# Altium footprint library Connector_Samtec_HLE_SMD.PcbLib: 290 footprints (part 4 of 24)
Each footprint in its own frame and in the unit in brackets; x right, y up, seen from the top. Pads: shape width x height; smd on the part's side, far side on the other; paste and mask are expansions set on the pad; w line width, h text height; cw(c..) or ccw(c..) is an arc to the next point about the centre after c.
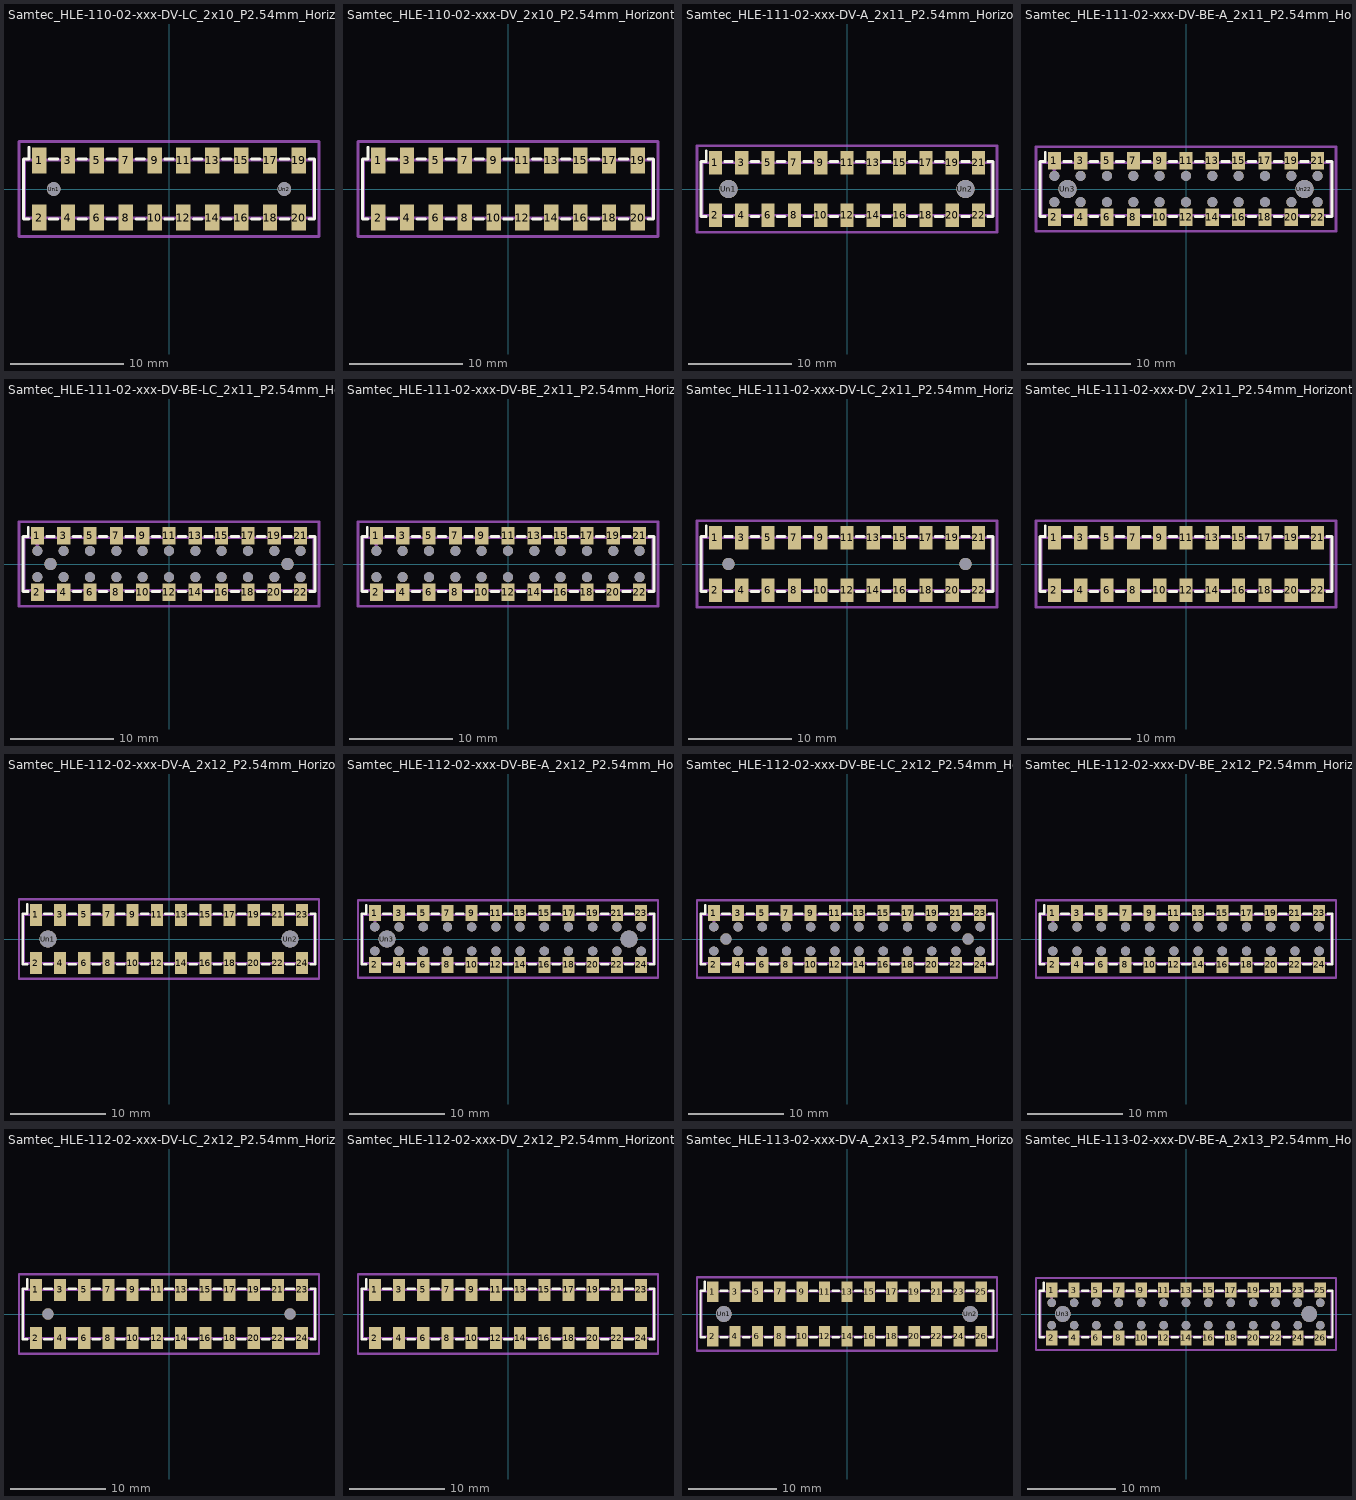
[diagram p3: the footprints below, top view; thin cyan lines are the x and y axes]

## Samtec_HLE-110-02-xxx-DV-LC_2x10_P2.54mm_Horizontal [mm]
pads (22):
  rect 1.27x2.29 smd: 1(-11.43,2.525) 2(-11.43,-2.525) 3(-8.89,2.525) 4(-8.89,-2.525) 5(-6.35,2.525) 6(-6.35,-2.525) 7(-3.81,2.525) 8(-3.81,-2.525) 9(-1.27,2.525) 10(-1.27,-2.525) 11(1.27,2.525) 12(1.27,-2.525) 13(3.81,2.525) 14(3.81,-2.525) 15(6.35,2.525) 16(6.35,-2.525) 17(8.89,2.525) 18(8.89,-2.525) 19(11.43,2.525) 20(11.43,-2.525)
  round 1.19 hole 1.19: Un1(-10.16,0) Un2(10.16,0)
F.SilkS:
  lines w0.254: -12.325,-2.65 -12.81,-2.65 -12.81,2.65 -12.325,2.65 -12.325,3.67 ; -10.535,-2.65 -9.785,-2.65 ; -10.535,2.65 -9.785,2.65 ; -7.995,-2.65 -7.245,-2.65 ; -7.995,2.65 -7.245,2.65 ; -5.455,-2.65 -4.705,-2.65 ; -5.455,2.65 -4.705,2.65 ; -2.915,-2.65 -2.165,-2.65 ; -2.915,2.65 -2.165,2.65 ; -0.375,-2.65 0.375,-2.65 ; -0.375,2.65 0.375,2.65 ; 2.165,-2.65 2.915,-2.65 ; 2.165,2.65 2.915,2.65 ; 4.705,-2.65 5.455,-2.65 ; 4.705,2.65 5.455,2.65 ; 7.245,-2.65 7.995,-2.65 ; 7.245,2.65 7.995,2.65 ; 9.785,-2.65 10.535,-2.65 ; 9.785,2.65 10.535,2.65 ; 12.325,-2.65 12.81,-2.65 12.81,2.65 12.325,2.65
Top Assembly:
  lines w0.254: -11.93,2.54 -11.43,1.833 -10.93,2.54 ; -12.7,-2.54 12.7,-2.54 12.7,2.54 -12.7,2.54 -12.7,-2.54
  text "'.Designator'" at -4.047,-2.68 h1
Top Courtyard:
  lines w0.254: -13.2,-4.17 13.2,-4.17 13.2,4.17 -13.2,4.17 -13.2,-4.17
Top Designator:
  text ".Designator" at -7.618,-0.508 h1.52

## Samtec_HLE-110-02-xxx-DV_2x10_P2.54mm_Horizontal [mm]
pads (20):
  rect 1.27x2.29 smd: 1(-11.43,2.525) 2(-11.43,-2.525) 3(-8.89,2.525) 4(-8.89,-2.525) 5(-6.35,2.525) 6(-6.35,-2.525) 7(-3.81,2.525) 8(-3.81,-2.525) 9(-1.27,2.525) 10(-1.27,-2.525) 11(1.27,2.525) 12(1.27,-2.525) 13(3.81,2.525) 14(3.81,-2.525) 15(6.35,2.525) 16(6.35,-2.525) 17(8.89,2.525) 18(8.89,-2.525) 19(11.43,2.525) 20(11.43,-2.525)
F.SilkS:
  lines w0.254: -12.325,-2.65 -12.81,-2.65 -12.81,2.65 -12.325,2.65 -12.325,3.67 ; -10.535,-2.65 -9.785,-2.65 ; -10.535,2.65 -9.785,2.65 ; -7.995,-2.65 -7.245,-2.65 ; -7.995,2.65 -7.245,2.65 ; -5.455,-2.65 -4.705,-2.65 ; -5.455,2.65 -4.705,2.65 ; -2.915,-2.65 -2.165,-2.65 ; -2.915,2.65 -2.165,2.65 ; -0.375,-2.65 0.375,-2.65 ; -0.375,2.65 0.375,2.65 ; 2.165,-2.65 2.915,-2.65 ; 2.165,2.65 2.915,2.65 ; 4.705,-2.65 5.455,-2.65 ; 4.705,2.65 5.455,2.65 ; 7.245,-2.65 7.995,-2.65 ; 7.245,2.65 7.995,2.65 ; 9.785,-2.65 10.535,-2.65 ; 9.785,2.65 10.535,2.65 ; 12.325,-2.65 12.81,-2.65 12.81,2.65 12.325,2.65
Top Assembly:
  lines w0.254: -11.93,2.54 -11.43,1.833 -10.93,2.54 ; -12.7,-2.54 12.7,-2.54 12.7,2.54 -12.7,2.54 -12.7,-2.54
  text "'.Designator'" at -4.047,-2.68 h1
Top Courtyard:
  lines w0.254: -13.2,-4.17 13.2,-4.17 13.2,4.17 -13.2,4.17 -13.2,-4.17
Top Designator:
  text ".Designator" at -7.618,-0.508 h1.52

## Samtec_HLE-111-02-xxx-DV-A_2x11_P2.54mm_Horizontal [mm]
pads (24):
  rect 1.27x2.29 smd: 1(-12.7,2.525) 2(-12.7,-2.525) 3(-10.16,2.525) 4(-10.16,-2.525) 5(-7.62,2.525) 6(-7.62,-2.525) 7(-5.08,2.525) 8(-5.08,-2.525) 9(-2.54,2.525) 10(-2.54,-2.525) 11(0,2.525) 12(0,-2.525) 13(2.54,2.525) 14(2.54,-2.525) 15(5.08,2.525) 16(5.08,-2.525) 17(7.62,2.525) 18(7.62,-2.525) 19(10.16,2.525) 20(10.16,-2.525) 21(12.7,2.525) 22(12.7,-2.525)
  round 1.78 hole 1.78: Un1(-11.43,0) Un2(11.43,0)
F.SilkS:
  lines w0.254: -13.595,-2.65 -14.08,-2.65 -14.08,2.65 -13.595,2.65 -13.595,3.67 ; -11.805,-2.65 -11.055,-2.65 ; -11.805,2.65 -11.055,2.65 ; -9.265,-2.65 -8.515,-2.65 ; -9.265,2.65 -8.515,2.65 ; -6.725,-2.65 -5.975,-2.65 ; -6.725,2.65 -5.975,2.65 ; -4.185,-2.65 -3.435,-2.65 ; -4.185,2.65 -3.435,2.65 ; -1.645,-2.65 -0.895,-2.65 ; -1.645,2.65 -0.895,2.65 ; 0.895,-2.65 1.645,-2.65 ; 0.895,2.65 1.645,2.65 ; 3.435,-2.65 4.185,-2.65 ; 3.435,2.65 4.185,2.65 ; 5.975,-2.65 6.725,-2.65 ; 5.975,2.65 6.725,2.65 ; 8.515,-2.65 9.265,-2.65 ; 8.515,2.65 9.265,2.65 ; 11.055,-2.65 11.805,-2.65 ; 11.055,2.65 11.805,2.65 ; 13.595,-2.65 14.08,-2.65 14.08,2.65 13.595,2.65
Top Assembly:
  lines w0.254: -13.2,2.54 -12.7,1.833 -12.2,2.54 ; -13.97,-2.54 13.97,-2.54 13.97,2.54 -13.97,2.54 -13.97,-2.54
  text "'.Designator'" at -4.047,-2.68 h1
Top Courtyard:
  lines w0.254: -14.47,-4.17 14.47,-4.17 14.47,4.17 -14.47,4.17 -14.47,-4.17
Top Designator:
  text ".Designator" at -7.618,-0.508 h1.52

## Samtec_HLE-111-02-xxx-DV-BE-A_2x11_P2.54mm_Horizontal [mm]
pads (46):
  rect 1.27x1.68 smd: 1(-12.7,2.72) 2(-12.7,-2.72) 3(-10.16,2.72) 4(-10.16,-2.72) 5(-7.62,2.72) 6(-7.62,-2.72) 7(-5.08,2.72) 8(-5.08,-2.72) 9(-2.54,2.72) 10(-2.54,-2.72) 11(0,2.72) 12(0,-2.72) 13(2.54,2.72) 14(2.54,-2.72) 15(5.08,2.72) 16(5.08,-2.72) 17(7.62,2.72) 18(7.62,-2.72) 19(10.16,2.72) 20(10.16,-2.72) 21(12.7,2.72) 22(12.7,-2.72)
  round 0.97 hole 0.97: Un1(-12.7,1.27) Un2(-12.7,-1.27) Un4(-10.16,1.27) Un5(-10.16,-1.27) Un6(-7.62,1.27) Un7(-7.62,-1.27) Un8(-5.08,1.27) Un9(-5.08,-1.27) Un10(-2.54,1.27) Un11(-2.54,-1.27) Un12(0,1.27) Un13(0,-1.27) Un14(2.54,1.27) Un15(2.54,-1.27) Un16(5.08,1.27) Un17(5.08,-1.27) Un18(7.62,1.27) Un19(7.62,-1.27) Un20(10.16,1.27) Un21(10.16,-1.27) Un23(12.7,1.27) Un24(12.7,-1.27)
  round 1.78 hole 1.78: Un3(-11.43,0) Un22(11.43,0)
F.SilkS:
  lines w0.254: -13.595,-2.65 -14.08,-2.65 -14.08,2.65 -13.595,2.65 -13.595,3.56 ; -11.805,-2.65 -11.055,-2.65 ; -11.805,2.65 -11.055,2.65 ; -9.265,-2.65 -8.515,-2.65 ; -9.265,2.65 -8.515,2.65 ; -6.725,-2.65 -5.975,-2.65 ; -6.725,2.65 -5.975,2.65 ; -4.185,-2.65 -3.435,-2.65 ; -4.185,2.65 -3.435,2.65 ; -1.645,-2.65 -0.895,-2.65 ; -1.645,2.65 -0.895,2.65 ; 0.895,-2.65 1.645,-2.65 ; 0.895,2.65 1.645,2.65 ; 3.435,-2.65 4.185,-2.65 ; 3.435,2.65 4.185,2.65 ; 5.975,-2.65 6.725,-2.65 ; 5.975,2.65 6.725,2.65 ; 8.515,-2.65 9.265,-2.65 ; 8.515,2.65 9.265,2.65 ; 11.055,-2.65 11.805,-2.65 ; 11.055,2.65 11.805,2.65 ; 13.595,-2.65 14.08,-2.65 14.08,2.65 13.595,2.65
Top Assembly:
  lines w0.254: -13.2,2.54 -12.7,1.833 -12.2,2.54 ; -13.97,-2.54 13.97,-2.54 13.97,2.54 -13.97,2.54 -13.97,-2.54
  text "'.Designator'" at -4.047,-2.68 h1
Top Courtyard:
  lines w0.254: -14.47,-4.07 14.47,-4.07 14.47,4.07 -14.47,4.07 -14.47,-4.07
Top Designator:
  text ".Designator" at -7.618,-0.508 h1.52

## Samtec_HLE-111-02-xxx-DV-BE-LC_2x11_P2.54mm_Horizontal [mm]
pads (46):
  rect 1.27x1.68 smd: 1(-12.7,2.72) 2(-12.7,-2.72) 3(-10.16,2.72) 4(-10.16,-2.72) 5(-7.62,2.72) 6(-7.62,-2.72) 7(-5.08,2.72) 8(-5.08,-2.72) 9(-2.54,2.72) 10(-2.54,-2.72) 11(0,2.72) 12(0,-2.72) 13(2.54,2.72) 14(2.54,-2.72) 15(5.08,2.72) 16(5.08,-2.72) 17(7.62,2.72) 18(7.62,-2.72) 19(10.16,2.72) 20(10.16,-2.72) 21(12.7,2.72) 22(12.7,-2.72)
  round 0.97 hole 0.97: Un1(-12.7,1.27) Un2(-12.7,-1.27) Un4(-10.16,1.27) Un5(-10.16,-1.27) Un6(-7.62,1.27) Un7(-7.62,-1.27) Un8(-5.08,1.27) Un9(-5.08,-1.27) Un10(-2.54,1.27) Un11(-2.54,-1.27) Un12(0,1.27) Un13(0,-1.27) Un14(2.54,1.27) Un15(2.54,-1.27) Un16(5.08,1.27) Un17(5.08,-1.27) Un18(7.62,1.27) Un19(7.62,-1.27) Un20(10.16,1.27) Un21(10.16,-1.27) Un23(12.7,1.27) Un24(12.7,-1.27)
  round 1.19 hole 1.19: Un3(-11.43,0) Un22(11.43,0)
F.SilkS:
  lines w0.254: -13.595,-2.65 -14.08,-2.65 -14.08,2.65 -13.595,2.65 -13.595,3.56 ; -11.805,-2.65 -11.055,-2.65 ; -11.805,2.65 -11.055,2.65 ; -9.265,-2.65 -8.515,-2.65 ; -9.265,2.65 -8.515,2.65 ; -6.725,-2.65 -5.975,-2.65 ; -6.725,2.65 -5.975,2.65 ; -4.185,-2.65 -3.435,-2.65 ; -4.185,2.65 -3.435,2.65 ; -1.645,-2.65 -0.895,-2.65 ; -1.645,2.65 -0.895,2.65 ; 0.895,-2.65 1.645,-2.65 ; 0.895,2.65 1.645,2.65 ; 3.435,-2.65 4.185,-2.65 ; 3.435,2.65 4.185,2.65 ; 5.975,-2.65 6.725,-2.65 ; 5.975,2.65 6.725,2.65 ; 8.515,-2.65 9.265,-2.65 ; 8.515,2.65 9.265,2.65 ; 11.055,-2.65 11.805,-2.65 ; 11.055,2.65 11.805,2.65 ; 13.595,-2.65 14.08,-2.65 14.08,2.65 13.595,2.65
Top Assembly:
  lines w0.254: -13.2,2.54 -12.7,1.833 -12.2,2.54 ; -13.97,-2.54 13.97,-2.54 13.97,2.54 -13.97,2.54 -13.97,-2.54
  text "'.Designator'" at -4.047,-2.68 h1
Top Courtyard:
  lines w0.254: -14.47,-4.07 14.47,-4.07 14.47,4.07 -14.47,4.07 -14.47,-4.07
Top Designator:
  text ".Designator" at -7.618,-0.508 h1.52

## Samtec_HLE-111-02-xxx-DV-BE_2x11_P2.54mm_Horizontal [mm]
pads (44):
  rect 1.27x1.68 smd: 1(-12.7,2.72) 2(-12.7,-2.72) 3(-10.16,2.72) 4(-10.16,-2.72) 5(-7.62,2.72) 6(-7.62,-2.72) 7(-5.08,2.72) 8(-5.08,-2.72) 9(-2.54,2.72) 10(-2.54,-2.72) 11(0,2.72) 12(0,-2.72) 13(2.54,2.72) 14(2.54,-2.72) 15(5.08,2.72) 16(5.08,-2.72) 17(7.62,2.72) 18(7.62,-2.72) 19(10.16,2.72) 20(10.16,-2.72) 21(12.7,2.72) 22(12.7,-2.72)
  round 0.97 hole 0.97: Un1(-12.7,1.27) Un2(-12.7,-1.27) Un3(-10.16,1.27) Un4(-10.16,-1.27) Un5(-7.62,1.27) Un6(-7.62,-1.27) Un7(-5.08,1.27) Un8(-5.08,-1.27) Un9(-2.54,1.27) Un10(-2.54,-1.27) Un11(0,1.27) Un12(0,-1.27) Un13(2.54,1.27) Un14(2.54,-1.27) Un15(5.08,1.27) Un16(5.08,-1.27) Un17(7.62,1.27) Un18(7.62,-1.27) Un19(10.16,1.27) Un20(10.16,-1.27) Un21(12.7,1.27) Un22(12.7,-1.27)
F.SilkS:
  lines w0.254: -13.595,-2.65 -14.08,-2.65 -14.08,2.65 -13.595,2.65 -13.595,3.56 ; -11.805,-2.65 -11.055,-2.65 ; -11.805,2.65 -11.055,2.65 ; -9.265,-2.65 -8.515,-2.65 ; -9.265,2.65 -8.515,2.65 ; -6.725,-2.65 -5.975,-2.65 ; -6.725,2.65 -5.975,2.65 ; -4.185,-2.65 -3.435,-2.65 ; -4.185,2.65 -3.435,2.65 ; -1.645,-2.65 -0.895,-2.65 ; -1.645,2.65 -0.895,2.65 ; 0.895,-2.65 1.645,-2.65 ; 0.895,2.65 1.645,2.65 ; 3.435,-2.65 4.185,-2.65 ; 3.435,2.65 4.185,2.65 ; 5.975,-2.65 6.725,-2.65 ; 5.975,2.65 6.725,2.65 ; 8.515,-2.65 9.265,-2.65 ; 8.515,2.65 9.265,2.65 ; 11.055,-2.65 11.805,-2.65 ; 11.055,2.65 11.805,2.65 ; 13.595,-2.65 14.08,-2.65 14.08,2.65 13.595,2.65
Top Assembly:
  lines w0.254: -13.2,2.54 -12.7,1.833 -12.2,2.54 ; -13.97,-2.54 13.97,-2.54 13.97,2.54 -13.97,2.54 -13.97,-2.54
  text "'.Designator'" at -4.047,-2.68 h1
Top Courtyard:
  lines w0.254: -14.47,-4.07 14.47,-4.07 14.47,4.07 -14.47,4.07 -14.47,-4.07
Top Designator:
  text ".Designator" at -7.618,-0.508 h1.52

## Samtec_HLE-111-02-xxx-DV-LC_2x11_P2.54mm_Horizontal [mm]
pads (24):
  rect 1.27x2.29 smd: 1(-12.7,2.525) 2(-12.7,-2.525) 3(-10.16,2.525) 4(-10.16,-2.525) 5(-7.62,2.525) 6(-7.62,-2.525) 7(-5.08,2.525) 8(-5.08,-2.525) 9(-2.54,2.525) 10(-2.54,-2.525) 11(0,2.525) 12(0,-2.525) 13(2.54,2.525) 14(2.54,-2.525) 15(5.08,2.525) 16(5.08,-2.525) 17(7.62,2.525) 18(7.62,-2.525) 19(10.16,2.525) 20(10.16,-2.525) 21(12.7,2.525) 22(12.7,-2.525)
  round 1.19 hole 1.19: Un1(-11.43,0) Un2(11.43,0)
F.SilkS:
  lines w0.254: -13.595,-2.65 -14.08,-2.65 -14.08,2.65 -13.595,2.65 -13.595,3.67 ; -11.805,-2.65 -11.055,-2.65 ; -11.805,2.65 -11.055,2.65 ; -9.265,-2.65 -8.515,-2.65 ; -9.265,2.65 -8.515,2.65 ; -6.725,-2.65 -5.975,-2.65 ; -6.725,2.65 -5.975,2.65 ; -4.185,-2.65 -3.435,-2.65 ; -4.185,2.65 -3.435,2.65 ; -1.645,-2.65 -0.895,-2.65 ; -1.645,2.65 -0.895,2.65 ; 0.895,-2.65 1.645,-2.65 ; 0.895,2.65 1.645,2.65 ; 3.435,-2.65 4.185,-2.65 ; 3.435,2.65 4.185,2.65 ; 5.975,-2.65 6.725,-2.65 ; 5.975,2.65 6.725,2.65 ; 8.515,-2.65 9.265,-2.65 ; 8.515,2.65 9.265,2.65 ; 11.055,-2.65 11.805,-2.65 ; 11.055,2.65 11.805,2.65 ; 13.595,-2.65 14.08,-2.65 14.08,2.65 13.595,2.65
Top Assembly:
  lines w0.254: -13.2,2.54 -12.7,1.833 -12.2,2.54 ; -13.97,-2.54 13.97,-2.54 13.97,2.54 -13.97,2.54 -13.97,-2.54
  text "'.Designator'" at -4.047,-2.68 h1
Top Courtyard:
  lines w0.254: -14.47,-4.17 14.47,-4.17 14.47,4.17 -14.47,4.17 -14.47,-4.17
Top Designator:
  text ".Designator" at -7.618,-0.508 h1.52

## Samtec_HLE-111-02-xxx-DV_2x11_P2.54mm_Horizontal [mm]
pads (22):
  rect 1.27x2.29 smd: 1(-12.7,2.525) 2(-12.7,-2.525) 3(-10.16,2.525) 4(-10.16,-2.525) 5(-7.62,2.525) 6(-7.62,-2.525) 7(-5.08,2.525) 8(-5.08,-2.525) 9(-2.54,2.525) 10(-2.54,-2.525) 11(0,2.525) 12(0,-2.525) 13(2.54,2.525) 14(2.54,-2.525) 15(5.08,2.525) 16(5.08,-2.525) 17(7.62,2.525) 18(7.62,-2.525) 19(10.16,2.525) 20(10.16,-2.525) 21(12.7,2.525) 22(12.7,-2.525)
F.SilkS:
  lines w0.254: -13.595,-2.65 -14.08,-2.65 -14.08,2.65 -13.595,2.65 -13.595,3.67 ; -11.805,-2.65 -11.055,-2.65 ; -11.805,2.65 -11.055,2.65 ; -9.265,-2.65 -8.515,-2.65 ; -9.265,2.65 -8.515,2.65 ; -6.725,-2.65 -5.975,-2.65 ; -6.725,2.65 -5.975,2.65 ; -4.185,-2.65 -3.435,-2.65 ; -4.185,2.65 -3.435,2.65 ; -1.645,-2.65 -0.895,-2.65 ; -1.645,2.65 -0.895,2.65 ; 0.895,-2.65 1.645,-2.65 ; 0.895,2.65 1.645,2.65 ; 3.435,-2.65 4.185,-2.65 ; 3.435,2.65 4.185,2.65 ; 5.975,-2.65 6.725,-2.65 ; 5.975,2.65 6.725,2.65 ; 8.515,-2.65 9.265,-2.65 ; 8.515,2.65 9.265,2.65 ; 11.055,-2.65 11.805,-2.65 ; 11.055,2.65 11.805,2.65 ; 13.595,-2.65 14.08,-2.65 14.08,2.65 13.595,2.65
Top Assembly:
  lines w0.254: -13.2,2.54 -12.7,1.833 -12.2,2.54 ; -13.97,-2.54 13.97,-2.54 13.97,2.54 -13.97,2.54 -13.97,-2.54
  text "'.Designator'" at -4.047,-2.68 h1
Top Courtyard:
  lines w0.254: -14.47,-4.17 14.47,-4.17 14.47,4.17 -14.47,4.17 -14.47,-4.17
Top Designator:
  text ".Designator" at -7.618,-0.508 h1.52

## Samtec_HLE-112-02-xxx-DV-A_2x12_P2.54mm_Horizontal [mm]
pads (26):
  rect 1.27x2.29 smd: 1(-13.97,2.525) 2(-13.97,-2.525) 3(-11.43,2.525) 4(-11.43,-2.525) 5(-8.89,2.525) 6(-8.89,-2.525) 7(-6.35,2.525) 8(-6.35,-2.525) 9(-3.81,2.525) 10(-3.81,-2.525) 11(-1.27,2.525) 12(-1.27,-2.525) 13(1.27,2.525) 14(1.27,-2.525) 15(3.81,2.525) 16(3.81,-2.525) 17(6.35,2.525) 18(6.35,-2.525) 19(8.89,2.525) 20(8.89,-2.525) 21(11.43,2.525) 22(11.43,-2.525) 23(13.97,2.525) 24(13.97,-2.525)
  round 1.78 hole 1.78: Un1(-12.7,0) Un2(12.7,0)
F.SilkS:
  lines w0.254: -14.865,-2.65 -15.35,-2.65 -15.35,2.65 -14.865,2.65 -14.865,3.67 ; -13.075,-2.65 -12.325,-2.65 ; -13.075,2.65 -12.325,2.65 ; -10.535,-2.65 -9.785,-2.65 ; -10.535,2.65 -9.785,2.65 ; -7.995,-2.65 -7.245,-2.65 ; -7.995,2.65 -7.245,2.65 ; -5.455,-2.65 -4.705,-2.65 ; -5.455,2.65 -4.705,2.65 ; -2.915,-2.65 -2.165,-2.65 ; -2.915,2.65 -2.165,2.65 ; -0.375,-2.65 0.375,-2.65 ; -0.375,2.65 0.375,2.65 ; 2.165,-2.65 2.915,-2.65 ; 2.165,2.65 2.915,2.65 ; 4.705,-2.65 5.455,-2.65 ; 4.705,2.65 5.455,2.65 ; 7.245,-2.65 7.995,-2.65 ; 7.245,2.65 7.995,2.65 ; 9.785,-2.65 10.535,-2.65 ; 9.785,2.65 10.535,2.65 ; 12.325,-2.65 13.075,-2.65 ; 12.325,2.65 13.075,2.65 ; 14.865,-2.65 15.35,-2.65 15.35,2.65 14.865,2.65
Top Assembly:
  lines w0.254: -14.47,2.54 -13.97,1.833 -13.47,2.54 ; -15.24,-2.54 15.24,-2.54 15.24,2.54 -15.24,2.54 -15.24,-2.54
  text "'.Designator'" at -4.047,-2.68 h1
Top Courtyard:
  lines w0.254: -15.74,-4.17 15.74,-4.17 15.74,4.17 -15.74,4.17 -15.74,-4.17
Top Designator:
  text ".Designator" at -7.618,-0.508 h1.52

## Samtec_HLE-112-02-xxx-DV-BE-A_2x12_P2.54mm_Horizontal [mm]
pads (50):
  rect 1.27x1.68 smd: 1(-13.97,2.72) 2(-13.97,-2.72) 3(-11.43,2.72) 4(-11.43,-2.72) 5(-8.89,2.72) 6(-8.89,-2.72) 7(-6.35,2.72) 8(-6.35,-2.72) 9(-3.81,2.72) 10(-3.81,-2.72) 11(-1.27,2.72) 12(-1.27,-2.72) 13(1.27,2.72) 14(1.27,-2.72) 15(3.81,2.72) 16(3.81,-2.72) 17(6.35,2.72) 18(6.35,-2.72) 19(8.89,2.72) 20(8.89,-2.72) 21(11.43,2.72) 22(11.43,-2.72) 23(13.97,2.72) 24(13.97,-2.72)
  round 0.97 hole 0.97: Un1(-13.97,1.27) Un2(-13.97,-1.27) Un4(-11.43,1.27) Un5(-11.43,-1.27) Un6(-8.89,1.27) Un7(-8.89,-1.27) Un8(-6.35,1.27) Un9(-6.35,-1.27) Un10(-3.81,1.27) Un11(-3.81,-1.27) Un12(-1.27,1.27) Un13(-1.27,-1.27) Un14(1.27,1.27) Un15(1.27,-1.27) Un16(3.81,1.27) Un17(3.81,-1.27) Un18(6.35,1.27) Un19(6.35,-1.27) Un20(8.89,1.27) Un21(8.89,-1.27) Un22(11.43,1.27) Un23(11.43,-1.27) Un25(13.97,1.27) Un26(13.97,-1.27)
  round 1.78 hole 1.78: Un3(-12.7,0) Un24(12.7,0)
F.SilkS:
  lines w0.254: -14.865,-2.65 -15.35,-2.65 -15.35,2.65 -14.865,2.65 -14.865,3.56 ; -13.075,-2.65 -12.325,-2.65 ; -13.075,2.65 -12.325,2.65 ; -10.535,-2.65 -9.785,-2.65 ; -10.535,2.65 -9.785,2.65 ; -7.995,-2.65 -7.245,-2.65 ; -7.995,2.65 -7.245,2.65 ; -5.455,-2.65 -4.705,-2.65 ; -5.455,2.65 -4.705,2.65 ; -2.915,-2.65 -2.165,-2.65 ; -2.915,2.65 -2.165,2.65 ; -0.375,-2.65 0.375,-2.65 ; -0.375,2.65 0.375,2.65 ; 2.165,-2.65 2.915,-2.65 ; 2.165,2.65 2.915,2.65 ; 4.705,-2.65 5.455,-2.65 ; 4.705,2.65 5.455,2.65 ; 7.245,-2.65 7.995,-2.65 ; 7.245,2.65 7.995,2.65 ; 9.785,-2.65 10.535,-2.65 ; 9.785,2.65 10.535,2.65 ; 12.325,-2.65 13.075,-2.65 ; 12.325,2.65 13.075,2.65 ; 14.865,-2.65 15.35,-2.65 15.35,2.65 14.865,2.65
Top Assembly:
  lines w0.254: -14.47,2.54 -13.97,1.833 -13.47,2.54 ; -15.24,-2.54 15.24,-2.54 15.24,2.54 -15.24,2.54 -15.24,-2.54
  text "'.Designator'" at -4.047,-2.68 h1
Top Courtyard:
  lines w0.254: -15.74,-4.07 15.74,-4.07 15.74,4.07 -15.74,4.07 -15.74,-4.07
Top Designator:
  text ".Designator" at -7.618,-0.508 h1.52

## Samtec_HLE-112-02-xxx-DV-BE-LC_2x12_P2.54mm_Horizontal [mm]
pads (50):
  rect 1.27x1.68 smd: 1(-13.97,2.72) 2(-13.97,-2.72) 3(-11.43,2.72) 4(-11.43,-2.72) 5(-8.89,2.72) 6(-8.89,-2.72) 7(-6.35,2.72) 8(-6.35,-2.72) 9(-3.81,2.72) 10(-3.81,-2.72) 11(-1.27,2.72) 12(-1.27,-2.72) 13(1.27,2.72) 14(1.27,-2.72) 15(3.81,2.72) 16(3.81,-2.72) 17(6.35,2.72) 18(6.35,-2.72) 19(8.89,2.72) 20(8.89,-2.72) 21(11.43,2.72) 22(11.43,-2.72) 23(13.97,2.72) 24(13.97,-2.72)
  round 0.97 hole 0.97: Un1(-13.97,1.27) Un2(-13.97,-1.27) Un4(-11.43,1.27) Un5(-11.43,-1.27) Un6(-8.89,1.27) Un7(-8.89,-1.27) Un8(-6.35,1.27) Un9(-6.35,-1.27) Un10(-3.81,1.27) Un11(-3.81,-1.27) Un12(-1.27,1.27) Un13(-1.27,-1.27) Un14(1.27,1.27) Un15(1.27,-1.27) Un16(3.81,1.27) Un17(3.81,-1.27) Un18(6.35,1.27) Un19(6.35,-1.27) Un20(8.89,1.27) Un21(8.89,-1.27) Un22(11.43,1.27) Un23(11.43,-1.27) Un25(13.97,1.27) Un26(13.97,-1.27)
  round 1.19 hole 1.19: Un3(-12.7,0) Un24(12.7,0)
F.SilkS:
  lines w0.254: -14.865,-2.65 -15.35,-2.65 -15.35,2.65 -14.865,2.65 -14.865,3.56 ; -13.075,-2.65 -12.325,-2.65 ; -13.075,2.65 -12.325,2.65 ; -10.535,-2.65 -9.785,-2.65 ; -10.535,2.65 -9.785,2.65 ; -7.995,-2.65 -7.245,-2.65 ; -7.995,2.65 -7.245,2.65 ; -5.455,-2.65 -4.705,-2.65 ; -5.455,2.65 -4.705,2.65 ; -2.915,-2.65 -2.165,-2.65 ; -2.915,2.65 -2.165,2.65 ; -0.375,-2.65 0.375,-2.65 ; -0.375,2.65 0.375,2.65 ; 2.165,-2.65 2.915,-2.65 ; 2.165,2.65 2.915,2.65 ; 4.705,-2.65 5.455,-2.65 ; 4.705,2.65 5.455,2.65 ; 7.245,-2.65 7.995,-2.65 ; 7.245,2.65 7.995,2.65 ; 9.785,-2.65 10.535,-2.65 ; 9.785,2.65 10.535,2.65 ; 12.325,-2.65 13.075,-2.65 ; 12.325,2.65 13.075,2.65 ; 14.865,-2.65 15.35,-2.65 15.35,2.65 14.865,2.65
Top Assembly:
  lines w0.254: -14.47,2.54 -13.97,1.833 -13.47,2.54 ; -15.24,-2.54 15.24,-2.54 15.24,2.54 -15.24,2.54 -15.24,-2.54
  text "'.Designator'" at -4.047,-2.68 h1
Top Courtyard:
  lines w0.254: -15.74,-4.07 15.74,-4.07 15.74,4.07 -15.74,4.07 -15.74,-4.07
Top Designator:
  text ".Designator" at -7.618,-0.508 h1.52

## Samtec_HLE-112-02-xxx-DV-BE_2x12_P2.54mm_Horizontal [mm]
pads (48):
  rect 1.27x1.68 smd: 1(-13.97,2.72) 2(-13.97,-2.72) 3(-11.43,2.72) 4(-11.43,-2.72) 5(-8.89,2.72) 6(-8.89,-2.72) 7(-6.35,2.72) 8(-6.35,-2.72) 9(-3.81,2.72) 10(-3.81,-2.72) 11(-1.27,2.72) 12(-1.27,-2.72) 13(1.27,2.72) 14(1.27,-2.72) 15(3.81,2.72) 16(3.81,-2.72) 17(6.35,2.72) 18(6.35,-2.72) 19(8.89,2.72) 20(8.89,-2.72) 21(11.43,2.72) 22(11.43,-2.72) 23(13.97,2.72) 24(13.97,-2.72)
  round 0.97 hole 0.97: Un1(-13.97,1.27) Un2(-13.97,-1.27) Un3(-11.43,1.27) Un4(-11.43,-1.27) Un5(-8.89,1.27) Un6(-8.89,-1.27) Un7(-6.35,1.27) Un8(-6.35,-1.27) Un9(-3.81,1.27) Un10(-3.81,-1.27) Un11(-1.27,1.27) Un12(-1.27,-1.27) Un13(1.27,1.27) Un14(1.27,-1.27) Un15(3.81,1.27) Un16(3.81,-1.27) Un17(6.35,1.27) Un18(6.35,-1.27) Un19(8.89,1.27) Un20(8.89,-1.27) Un21(11.43,1.27) Un22(11.43,-1.27) Un23(13.97,1.27) Un24(13.97,-1.27)
F.SilkS:
  lines w0.254: -14.865,-2.65 -15.35,-2.65 -15.35,2.65 -14.865,2.65 -14.865,3.56 ; -13.075,-2.65 -12.325,-2.65 ; -13.075,2.65 -12.325,2.65 ; -10.535,-2.65 -9.785,-2.65 ; -10.535,2.65 -9.785,2.65 ; -7.995,-2.65 -7.245,-2.65 ; -7.995,2.65 -7.245,2.65 ; -5.455,-2.65 -4.705,-2.65 ; -5.455,2.65 -4.705,2.65 ; -2.915,-2.65 -2.165,-2.65 ; -2.915,2.65 -2.165,2.65 ; -0.375,-2.65 0.375,-2.65 ; -0.375,2.65 0.375,2.65 ; 2.165,-2.65 2.915,-2.65 ; 2.165,2.65 2.915,2.65 ; 4.705,-2.65 5.455,-2.65 ; 4.705,2.65 5.455,2.65 ; 7.245,-2.65 7.995,-2.65 ; 7.245,2.65 7.995,2.65 ; 9.785,-2.65 10.535,-2.65 ; 9.785,2.65 10.535,2.65 ; 12.325,-2.65 13.075,-2.65 ; 12.325,2.65 13.075,2.65 ; 14.865,-2.65 15.35,-2.65 15.35,2.65 14.865,2.65
Top Assembly:
  lines w0.254: -14.47,2.54 -13.97,1.833 -13.47,2.54 ; -15.24,-2.54 15.24,-2.54 15.24,2.54 -15.24,2.54 -15.24,-2.54
  text "'.Designator'" at -4.047,-2.68 h1
Top Courtyard:
  lines w0.254: -15.74,-4.07 15.74,-4.07 15.74,4.07 -15.74,4.07 -15.74,-4.07
Top Designator:
  text ".Designator" at -7.618,-0.508 h1.52

## Samtec_HLE-112-02-xxx-DV-LC_2x12_P2.54mm_Horizontal [mm]
pads (26):
  rect 1.27x2.29 smd: 1(-13.97,2.525) 2(-13.97,-2.525) 3(-11.43,2.525) 4(-11.43,-2.525) 5(-8.89,2.525) 6(-8.89,-2.525) 7(-6.35,2.525) 8(-6.35,-2.525) 9(-3.81,2.525) 10(-3.81,-2.525) 11(-1.27,2.525) 12(-1.27,-2.525) 13(1.27,2.525) 14(1.27,-2.525) 15(3.81,2.525) 16(3.81,-2.525) 17(6.35,2.525) 18(6.35,-2.525) 19(8.89,2.525) 20(8.89,-2.525) 21(11.43,2.525) 22(11.43,-2.525) 23(13.97,2.525) 24(13.97,-2.525)
  round 1.19 hole 1.19: Un1(-12.7,0) Un2(12.7,0)
F.SilkS:
  lines w0.254: -14.865,-2.65 -15.35,-2.65 -15.35,2.65 -14.865,2.65 -14.865,3.67 ; -13.075,-2.65 -12.325,-2.65 ; -13.075,2.65 -12.325,2.65 ; -10.535,-2.65 -9.785,-2.65 ; -10.535,2.65 -9.785,2.65 ; -7.995,-2.65 -7.245,-2.65 ; -7.995,2.65 -7.245,2.65 ; -5.455,-2.65 -4.705,-2.65 ; -5.455,2.65 -4.705,2.65 ; -2.915,-2.65 -2.165,-2.65 ; -2.915,2.65 -2.165,2.65 ; -0.375,-2.65 0.375,-2.65 ; -0.375,2.65 0.375,2.65 ; 2.165,-2.65 2.915,-2.65 ; 2.165,2.65 2.915,2.65 ; 4.705,-2.65 5.455,-2.65 ; 4.705,2.65 5.455,2.65 ; 7.245,-2.65 7.995,-2.65 ; 7.245,2.65 7.995,2.65 ; 9.785,-2.65 10.535,-2.65 ; 9.785,2.65 10.535,2.65 ; 12.325,-2.65 13.075,-2.65 ; 12.325,2.65 13.075,2.65 ; 14.865,-2.65 15.35,-2.65 15.35,2.65 14.865,2.65
Top Assembly:
  lines w0.254: -14.47,2.54 -13.97,1.833 -13.47,2.54 ; -15.24,-2.54 15.24,-2.54 15.24,2.54 -15.24,2.54 -15.24,-2.54
  text "'.Designator'" at -4.047,-2.68 h1
Top Courtyard:
  lines w0.254: -15.74,-4.17 15.74,-4.17 15.74,4.17 -15.74,4.17 -15.74,-4.17
Top Designator:
  text ".Designator" at -7.618,-0.508 h1.52

## Samtec_HLE-112-02-xxx-DV_2x12_P2.54mm_Horizontal [mm]
pads (24):
  rect 1.27x2.29 smd: 1(-13.97,2.525) 2(-13.97,-2.525) 3(-11.43,2.525) 4(-11.43,-2.525) 5(-8.89,2.525) 6(-8.89,-2.525) 7(-6.35,2.525) 8(-6.35,-2.525) 9(-3.81,2.525) 10(-3.81,-2.525) 11(-1.27,2.525) 12(-1.27,-2.525) 13(1.27,2.525) 14(1.27,-2.525) 15(3.81,2.525) 16(3.81,-2.525) 17(6.35,2.525) 18(6.35,-2.525) 19(8.89,2.525) 20(8.89,-2.525) 21(11.43,2.525) 22(11.43,-2.525) 23(13.97,2.525) 24(13.97,-2.525)
F.SilkS:
  lines w0.254: -14.865,-2.65 -15.35,-2.65 -15.35,2.65 -14.865,2.65 -14.865,3.67 ; -13.075,-2.65 -12.325,-2.65 ; -13.075,2.65 -12.325,2.65 ; -10.535,-2.65 -9.785,-2.65 ; -10.535,2.65 -9.785,2.65 ; -7.995,-2.65 -7.245,-2.65 ; -7.995,2.65 -7.245,2.65 ; -5.455,-2.65 -4.705,-2.65 ; -5.455,2.65 -4.705,2.65 ; -2.915,-2.65 -2.165,-2.65 ; -2.915,2.65 -2.165,2.65 ; -0.375,-2.65 0.375,-2.65 ; -0.375,2.65 0.375,2.65 ; 2.165,-2.65 2.915,-2.65 ; 2.165,2.65 2.915,2.65 ; 4.705,-2.65 5.455,-2.65 ; 4.705,2.65 5.455,2.65 ; 7.245,-2.65 7.995,-2.65 ; 7.245,2.65 7.995,2.65 ; 9.785,-2.65 10.535,-2.65 ; 9.785,2.65 10.535,2.65 ; 12.325,-2.65 13.075,-2.65 ; 12.325,2.65 13.075,2.65 ; 14.865,-2.65 15.35,-2.65 15.35,2.65 14.865,2.65
Top Assembly:
  lines w0.254: -14.47,2.54 -13.97,1.833 -13.47,2.54 ; -15.24,-2.54 15.24,-2.54 15.24,2.54 -15.24,2.54 -15.24,-2.54
  text "'.Designator'" at -4.047,-2.68 h1
Top Courtyard:
  lines w0.254: -15.74,-4.17 15.74,-4.17 15.74,4.17 -15.74,4.17 -15.74,-4.17
Top Designator:
  text ".Designator" at -7.618,-0.508 h1.52

## Samtec_HLE-113-02-xxx-DV-A_2x13_P2.54mm_Horizontal [mm]
pads (28):
  rect 1.27x2.29 smd: 1(-15.24,2.525) 2(-15.24,-2.525) 3(-12.7,2.525) 4(-12.7,-2.525) 5(-10.16,2.525) 6(-10.16,-2.525) 7(-7.62,2.525) 8(-7.62,-2.525) 9(-5.08,2.525) 10(-5.08,-2.525) 11(-2.54,2.525) 12(-2.54,-2.525) 13(0,2.525) 14(0,-2.525) 15(2.54,2.525) 16(2.54,-2.525) 17(5.08,2.525) 18(5.08,-2.525) 19(7.62,2.525) 20(7.62,-2.525) 21(10.16,2.525) 22(10.16,-2.525) 23(12.7,2.525) 24(12.7,-2.525) 25(15.24,2.525) 26(15.24,-2.525)
  round 1.78 hole 1.78: Un1(-13.97,0) Un2(13.97,0)
F.SilkS:
  lines w0.254: -16.135,-2.65 -16.62,-2.65 -16.62,2.65 -16.135,2.65 -16.135,3.67 ; -14.345,-2.65 -13.595,-2.65 ; -14.345,2.65 -13.595,2.65 ; -11.805,-2.65 -11.055,-2.65 ; -11.805,2.65 -11.055,2.65 ; -9.265,-2.65 -8.515,-2.65 ; -9.265,2.65 -8.515,2.65 ; -6.725,-2.65 -5.975,-2.65 ; -6.725,2.65 -5.975,2.65 ; -4.185,-2.65 -3.435,-2.65 ; -4.185,2.65 -3.435,2.65 ; -1.645,-2.65 -0.895,-2.65 ; -1.645,2.65 -0.895,2.65 ; 0.895,-2.65 1.645,-2.65 ; 0.895,2.65 1.645,2.65 ; 3.435,-2.65 4.185,-2.65 ; 3.435,2.65 4.185,2.65 ; 5.975,-2.65 6.725,-2.65 ; 5.975,2.65 6.725,2.65 ; 8.515,-2.65 9.265,-2.65 ; 8.515,2.65 9.265,2.65 ; 11.055,-2.65 11.805,-2.65 ; 11.055,2.65 11.805,2.65 ; 13.595,-2.65 14.345,-2.65 ; 13.595,2.65 14.345,2.65 ; 16.135,-2.65 16.62,-2.65 16.62,2.65 16.135,2.65
Top Assembly:
  lines w0.254: -15.74,2.54 -15.24,1.833 -14.74,2.54 ; -16.51,-2.54 16.51,-2.54 16.51,2.54 -16.51,2.54 -16.51,-2.54
  text "'.Designator'" at -4.047,-2.68 h1
Top Courtyard:
  lines w0.254: -17.02,-4.17 17.02,-4.17 17.02,4.17 -17.02,4.17 -17.02,-4.17
Top Designator:
  text ".Designator" at -7.618,-0.508 h1.52

## Samtec_HLE-113-02-xxx-DV-BE-A_2x13_P2.54mm_Horizontal [mm]
pads (54):
  rect 1.27x1.68 smd: 1(-15.24,2.72) 2(-15.24,-2.72) 3(-12.7,2.72) 4(-12.7,-2.72) 5(-10.16,2.72) 6(-10.16,-2.72) 7(-7.62,2.72) 8(-7.62,-2.72) 9(-5.08,2.72) 10(-5.08,-2.72) 11(-2.54,2.72) 12(-2.54,-2.72) 13(0,2.72) 14(0,-2.72) 15(2.54,2.72) 16(2.54,-2.72) 17(5.08,2.72) 18(5.08,-2.72) 19(7.62,2.72) 20(7.62,-2.72) 21(10.16,2.72) 22(10.16,-2.72) 23(12.7,2.72) 24(12.7,-2.72) 25(15.24,2.72) 26(15.24,-2.72)
  round 0.97 hole 0.97: Un1(-15.24,1.27) Un2(-15.24,-1.27) Un4(-12.7,1.27) Un5(-12.7,-1.27) Un6(-10.16,1.27) Un7(-10.16,-1.27) Un8(-7.62,1.27) Un9(-7.62,-1.27) Un10(-5.08,1.27) Un11(-5.08,-1.27) Un12(-2.54,1.27) Un13(-2.54,-1.27) Un14(0,1.27) Un15(0,-1.27) Un16(2.54,1.27) Un17(2.54,-1.27) Un18(5.08,1.27) Un19(5.08,-1.27) Un20(7.62,1.27) Un21(7.62,-1.27) Un22(10.16,1.27) Un23(10.16,-1.27) Un24(12.7,1.27) Un25(12.7,-1.27) Un27(15.24,1.27) Un28(15.24,-1.27)
  round 1.78 hole 1.78: Un3(-13.97,0) Un26(13.97,0)
F.SilkS:
  lines w0.254: -16.135,-2.65 -16.62,-2.65 -16.62,2.65 -16.135,2.65 -16.135,3.56 ; -14.345,-2.65 -13.595,-2.65 ; -14.345,2.65 -13.595,2.65 ; -11.805,-2.65 -11.055,-2.65 ; -11.805,2.65 -11.055,2.65 ; -9.265,-2.65 -8.515,-2.65 ; -9.265,2.65 -8.515,2.65 ; -6.725,-2.65 -5.975,-2.65 ; -6.725,2.65 -5.975,2.65 ; -4.185,-2.65 -3.435,-2.65 ; -4.185,2.65 -3.435,2.65 ; -1.645,-2.65 -0.895,-2.65 ; -1.645,2.65 -0.895,2.65 ; 0.895,-2.65 1.645,-2.65 ; 0.895,2.65 1.645,2.65 ; 3.435,-2.65 4.185,-2.65 ; 3.435,2.65 4.185,2.65 ; 5.975,-2.65 6.725,-2.65 ; 5.975,2.65 6.725,2.65 ; 8.515,-2.65 9.265,-2.65 ; 8.515,2.65 9.265,2.65 ; 11.055,-2.65 11.805,-2.65 ; 11.055,2.65 11.805,2.65 ; 13.595,-2.65 14.345,-2.65 ; 13.595,2.65 14.345,2.65 ; 16.135,-2.65 16.62,-2.65 16.62,2.65 16.135,2.65
Top Assembly:
  lines w0.254: -15.74,2.54 -15.24,1.833 -14.74,2.54 ; -16.51,-2.54 16.51,-2.54 16.51,2.54 -16.51,2.54 -16.51,-2.54
  text "'.Designator'" at -4.047,-2.68 h1
Top Courtyard:
  lines w0.254: -17.02,-4.07 17.02,-4.07 17.02,4.07 -17.02,4.07 -17.02,-4.07
Top Designator:
  text ".Designator" at -7.618,-0.508 h1.52